# EAGLE library part LT1468 (library MDB_HOME)
90MHz, 22V/ìs 16-Bit Accurate Operational Amplifier
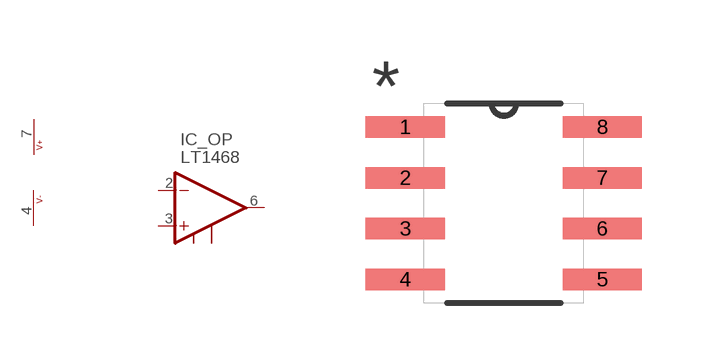
[diagram p37: symbol with the pads of SOIC127P600X175-8N; footprint SOIC127P600X175-8N]

Designator prefix IC; gates _OP=LT1468CS8PBF B=PWR+-

## LT1468 (MPN: LT1468CS8#PBF; OC_FARNELL: 2102597; OC_NEWARK: 57M4378; PACKAGE: SOIC-8; SUPPLIER: Linear Technology)  [SOIC127P600X175-8N]
1  _OP:OFFS1  pas
2  _OP:-IN  in
3  _OP:+IN  in
4  B:V-  pwr
5  _OP:OFFS5  pas
6  _OP:OUT  out
7  B:V+  pwr

## Footprint SOIC127P600X175-8N (pad centres in mm)
smd 1.981 x 0.533: 1 -2.464,1.905; 2 -2.464,0.635; 3 -2.464,-0.635; 4 -2.464,-1.905; 5 2.464,-1.905; 6 2.464,-0.635; 7 2.464,0.635; 8 2.464,1.905